# EAGLE library part WINGX_ACPL-847-W00E (library arduinoModuleSVS)
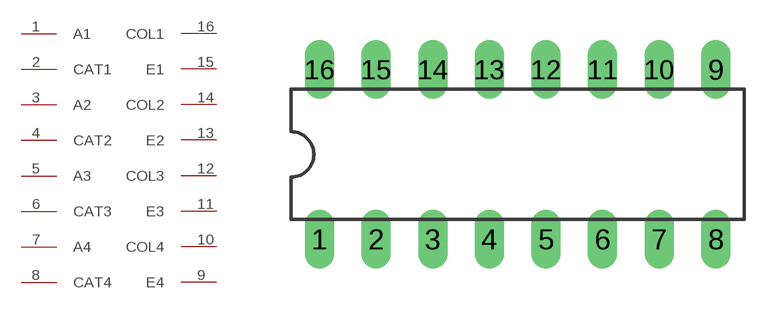
[diagram p4: symbol with the pads of WINGX_DIL16; footprint WINGX_DIL16]

Designator prefix -

## WINGX_ACPL-847-W00E  [WINGX_DIL16]
1  A1
2  CAT1
3  A2
4  CAT2
5  A3
6  CAT3
7  A4
8  CAT4
9  E4
10  COL4
11  E3
12  COL3
13  E2
14  COL2
15  E1
16  COL1

## Footprint WINGX_DIL16 (pad centres in mm)
Dual In Line Package
drill 0.813 long: 1 -8.89,-3.81; 2 -6.35,-3.81; 3 -3.81,-3.81; 4 -1.27,-3.81; 5 1.27,-3.81; 6 3.81,-3.81; 7 6.35,-3.81; 8 8.89,-3.81; 9 8.89,3.81; 10 6.35,3.81; 11 3.81,3.81; 12 1.27,3.81; 13 -1.27,3.81; 14 -3.81,3.81; 15 -6.35,3.81; 16 -8.89,3.81